# EAGLE library part ENC28J60 (library ethernet-mikroavr)
ENC28J60, SHIELD EHTERNET, CREATE BY MIKROAVR.COM
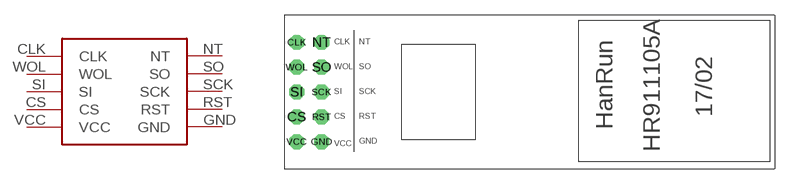
[diagram p0: symbol with the pads of ENC28J60; footprint ENC28J60]

Designator prefix -

## ENC28J60  [ENC28J60]
CLK  CLK
CS  CS
GND  GND
NT  NT
RST  RST
SCK  SCK
SI  SI
SO  SO
VCC  VCC
WOL  WOL

## Footprint ENC28J60 (pad centres in mm)
PIN HEADER
drill 1.016 octagon: CLK 1.27,2.54; CS 1.27,-5.08; GND 3.81,-7.62; NT 3.81,2.54; RST 3.81,-5.08; SCK 3.81,-2.54; SI 1.27,-2.54; SO 3.81,0; VCC 1.27,-7.62; WOL 1.27,0